# EAGLE library part IP4251CZ8-4-TTL (library NXP_By_element14_Batch_1)
passive filter network
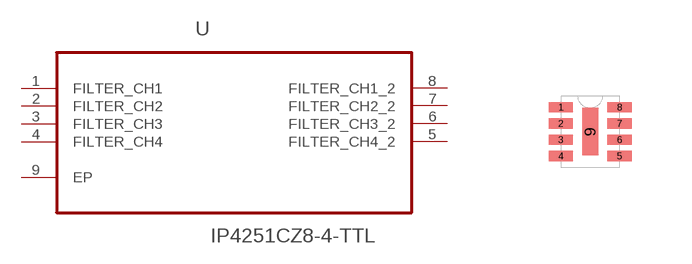
[diagram p295: symbol with the pads of SON40P135X170X55-9N; footprint SON40P135X170X55-9N]

Designator prefix U

## IP4251CZ8-4-TTL (MPN: IP4251CZ8-4-TTL; OC_FARNELL: 1972685; OC_NEWARK: 58T9586; P1I: o; PACKAGE: SON-8; SUPPLIER: NXP)  [SON40P135X170X55-9N]
1  FILTER_CH1  pas
2  FILTER_CH2  pas
3  FILTER_CH3  pas
4  FILTER_CH4  pas
5  FILTER_CH4_2  pas
6  FILTER_CH3_2  pas
7  FILTER_CH2_2  pas
8  FILTER_CH1_2  pas
9  EP  pas

## Footprint SON40P135X170X55-9N (pad centres in mm)
smd 0.61 x 0.254: 1 -0.737,0.61; 2 -0.737,0.203; 3 -0.737,-0.203; 4 -0.737,-0.61; 5 0.737,-0.61; 6 0.737,-0.203; 7 0.737,0.203; 8 0.737,0.61
smd 0.406 x 1.194: 9 0,0